# Altium footprint library 691 218 410 0xx.PcbLib: 2 footprints
Each footprint in its own frame and in the unit in brackets; x right, y up, seen from the top. Pads: shape width x height; smd on the part's side, far side on the other; paste and mask are expansions set on the pad; w line width, h text height; cw(c..) or ccw(c..) is an arc to the next point about the centre after c.
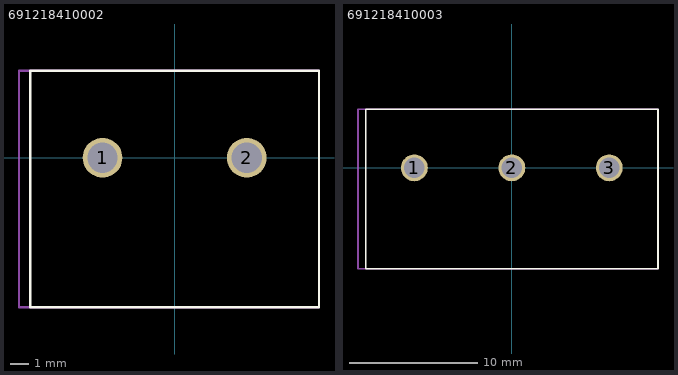
[diagram p0: the footprints below, top view; thin cyan lines are the x and y axes]

## 691218410002 [mm]
height 21.5
pads (2):
  round 2.1 hole 1.6: 1(-3.81,0) 2(3.81,0)
Top Overlay:
  lines w0.127: -7.62,-7.9 -7.62,4.6 7.62,4.6 7.62,-7.9 -7.62,-7.9
Mechanical 13:
  lines w0.127: -8.22,-7.9 -8.22,4.6 7.62,4.6 7.62,-7.9 -8.22,-7.9
3D body: height 21.51, standoff -4.19, extent -8.22,-7.9 7.62,4.6

## 691218410003 [mm]
height 21.5
pads (3):
  round 2.1 hole 1.6: 1(-7.62,0) 2(0,0) 3(7.62,0)
Top Overlay:
  lines w0.127: -11.43,-7.9 11.43,-7.9 11.43,4.6 -11.43,4.6 -11.43,-7.9
Mechanical 13:
  lines w0.127: -12.03,-7.9 11.43,-7.9 11.43,4.6 -12.03,4.6 -12.03,-7.9
3D body: height 21.51, standoff -4.19, extent -12.03,-7.9 11.43,4.6